# Altium footprint library connector.PcbLib: 180 footprints (part 6 of 12)
Each footprint in its own frame and in the unit in brackets; x right, y up, seen from the top. Pads: shape width x height; smd on the part's side, far side on the other; paste and mask are expansions set on the pad; w line width, h text height; cw(c..) or ccw(c..) is an arc to the next point about the centre after c.
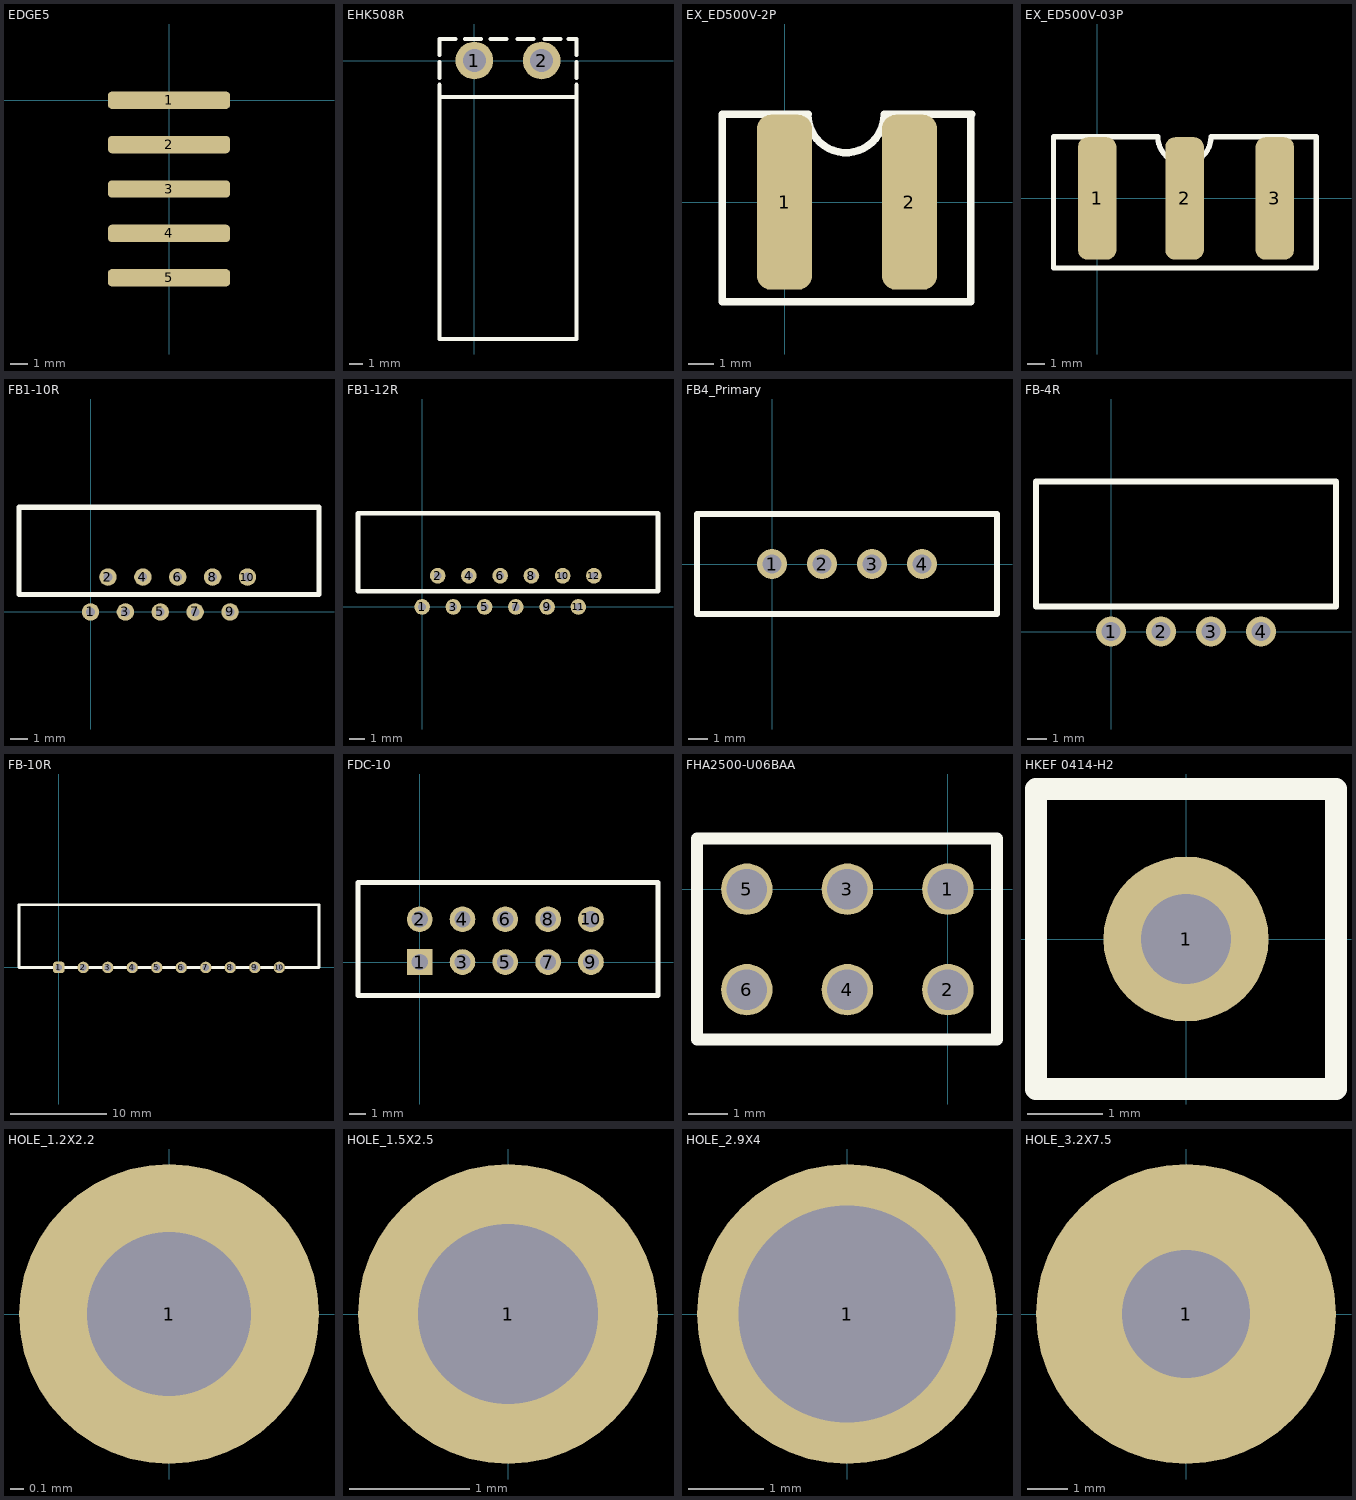
[diagram p5: the footprints below, top view; thin cyan lines are the x and y axes]

## EDGE5 [mm]
pads (5):
  rrect50% 7x1 smd: 1(0,0) 2(0,-2.54) 3(0,-5.08) 4(0,-7.62) 5(0,-10.16)

## EHK508R [mm]
pads (2):
  round 2.8 hole 1.7: 1(0,0) 2(5,0)
Top Overlay:
  lines w0.3: -2.6,-1.8 -2.6,-2.7 ; -2.6,-1.3 -2.6,-0.1 ; -2.6,0.4 -2.6,1.6 -1.4,1.6 ; -0.7,1.6 0.5,1.6 ; 1.2,1.6 2.4,1.6 ; 3.2,1.6 4.4,1.6 ; 5.2,1.6 6.4,1.6 ; 7,1.6 7.6,1.6 7.6,0.4 ; 7.6,-1.8 7.6,-2.7 ; 7.6,-1.3 7.6,-0.1 ; -2.6,-2.7 -2.6,-20.7 7.6,-20.7 7.6,-2.7 ; -2.6,-2.7 7.6,-2.7

## EX_ED500V-2P [mm]
pads (2):
  rrect50% 2.2x7 smd: 1(0,0) 2(5,0)
Top Overlay:
  lines w0.3: 0.936,3.507 ccw(c2.46,3.507) 3.984,3.507 ; 0.94,3.527 -2.5,3.527 -2.5,-3.973 7.45,-3.973 7.45,3.527 ; 3.984,3.527 7.5,3.527

## EX_ED500V-03P [mm]
pads (3):
  rrect50% 2.2x7 smd: 1(0,0) 2(5,0) 3(10.16,0)
Top Overlay:
  lines w0.3: 3.46,3.527 -2.5,3.527 -2.5,-3.973 12.53,-3.973 12.53,3.527 6.52,3.527 ; 3.466,3.527 ccw(c4.99,3.527) 6.514,3.527

## FB1-10R [mm]
pads (10):
  round 1 hole 0.5: 1(0,0) 2(1,2) 3(2,0) 4(3,2) 5(4,0) 6(5,2) 7(6,0) 8(7,2) 9(8,0) 10(9,2)
Top Overlay:
  lines w0.3: -4.1,1 13.1,1 13.1,6 -4.1,6 -4.1,1

## FB1-12R [mm]
pads (12):
  round 1 hole 0.5: 1(0,0) 2(1,2) 3(2,0) 4(3,2) 5(4,0) 6(5,2) 7(6,0) 8(7,2) 9(8,0) 10(9,2) 11(10,0) 12(11,2)
Top Overlay:
  lines w0.3: -4.1,1 -4.1,6 15.1,6 15.1,1 -4.1,1

## FB4_Primary [mil]
pads (4):
  round 60 hole 38: 1(0,0) 2(100,0) 3(200,0) 4(300,0)
Top Overlay:
  lines w11.81: -150,-100 450,-100 450,100 -150,100 -150,-100

## FB-4R [mil]
pads (4):
  round 60 hole 38: 1(0,0) 2(100,0) 3(200,0) 4(300,0)
Top Overlay:
  lines w11.81: -150,50 450,50 450,300 -150,300 -150,50

## FB-10R [mm]
pads (10):
  rrect50% 1.2x1.2 hole 0.7: 1(0,0)
  round 1.2 hole 0.7: 2(2.54,0) 3(5.08,0) 4(7.62,0) 5(10.16,0) 6(12.7,0) 7(15.24,0) 8(17.78,0) 9(20.32,0) 10(22.86,0)
Top Overlay:
  lines w0.3: -4.12,0 -4.12,6.5 26.98,6.5 26.98,0 -4.12,0

## FDC-10 [mil]
pads (10):
  rect 60x60 hole 38: 1(0,0)
  round 60 hole 38: 2(0,100) 3(100,0) 4(100,100) 5(200,0) 6(200,100) 7(300,0) 8(300,100) 9(400,0) 10(400,100)
Top Overlay:
  lines w11.81: -144.09,-77.95 -144.09,185.83 556.69,185.83 556.69,-77.95 -144.09,-77.95

## FHA2500-U06BAA [mm]
pads (6):
  round 1.3 hole 1.02: 1(0,0) 2(0,-2.54) 3(-2.54,0) 4(-2.54,-2.54) 5(-5.08,0) 6(-5.08,-2.54)
Top Overlay:
  lines w0.3: -6.34,-3.8 1.24,-3.8 1.24,1.28 -6.34,1.28 -6.34,-3.8
3D body "FHA2500-Y06BAA.STEP": height 5, standoff -4, extent -6.335,-3.775 1.285,1.225

## HKEF 0414-H2 [mm]
pads (1):
  round 2.2 hole 1.2: 1(0,0)
Top Overlay:
  lines w0.3: -2,-2 -0.1,-2 0,-2 2,-2 2,0 2,2 0.4,2 0,2 -2,2 -2,0 -2,-2

## HOLE_1.2X2.2 [mm]
pads (1):
  round 2.2 hole 1.2: 1(0,0)

## HOLE_1.5X2.5 [mm]
pads (1):
  round 2.5 hole 1.5: 1(0,0)

## HOLE_2.9X4 [mm]
pads (1):
  round 4 hole 2.9: 1(0,0)

## HOLE_3.2X7.5 [mm]
pads (1):
  round 7.5 hole 3.2: 1(0,0)